# Altium schematic symbol library 776276-1.SchLib: 1 symbol
Pins are listed as number, name and electrical type; pins without a type are passive.

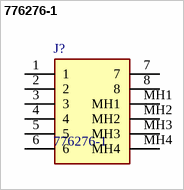
[diagram p0: symbol 776276-1]

## 776276-1
designator J?
8POS,PIN DIA 1.3,HDR ASSY,180DEG,SLDR,AMPSEAL, Automotive Headers, Wire-to-Board / Wire-to-Device, 8 Position, 4mm [.157in] Centerline, Sealable, Vertical, 3 Row, Black; Manufacturer_Name: TE Connectivity; Geometry.Height: 34.5mm; Mouser Part Number: 571-776276-1; Mouser Price/Stock: https://www.mouser.co.uk/ProductDetail/TE-Connectivity/776276-1?qs=tLAa1RwIH6dOXUCPhsBe4Q%3D%3D; Manufacturer_Part_Number: 776276-1; Datasheet Link: https://www.te.com/commerce/DocumentDelivery/DDEController?Action=srchrtrv&DocNm=1-1773979-2&DocType=Data+Sheet&DocLang=English&PartCntxt=776276-1&DocFormat=pdf
footprint 7762761
pins: 1, 2, 3, 4, 5, 6, 7, 8, MH1, MH2, MH3, MH4